# Altium footprint library JEILI_DEV_BOARD.PcbLib: 38 footprints (part 2 of 3)
Each footprint in its own frame and in the unit in brackets; x right, y up, seen from the top. Pads: shape width x height; smd on the part's side, far side on the other; paste and mask are expansions set on the pad; w line width, h text height; cw(c..) or ccw(c..) is an arc to the next point about the centre after c.
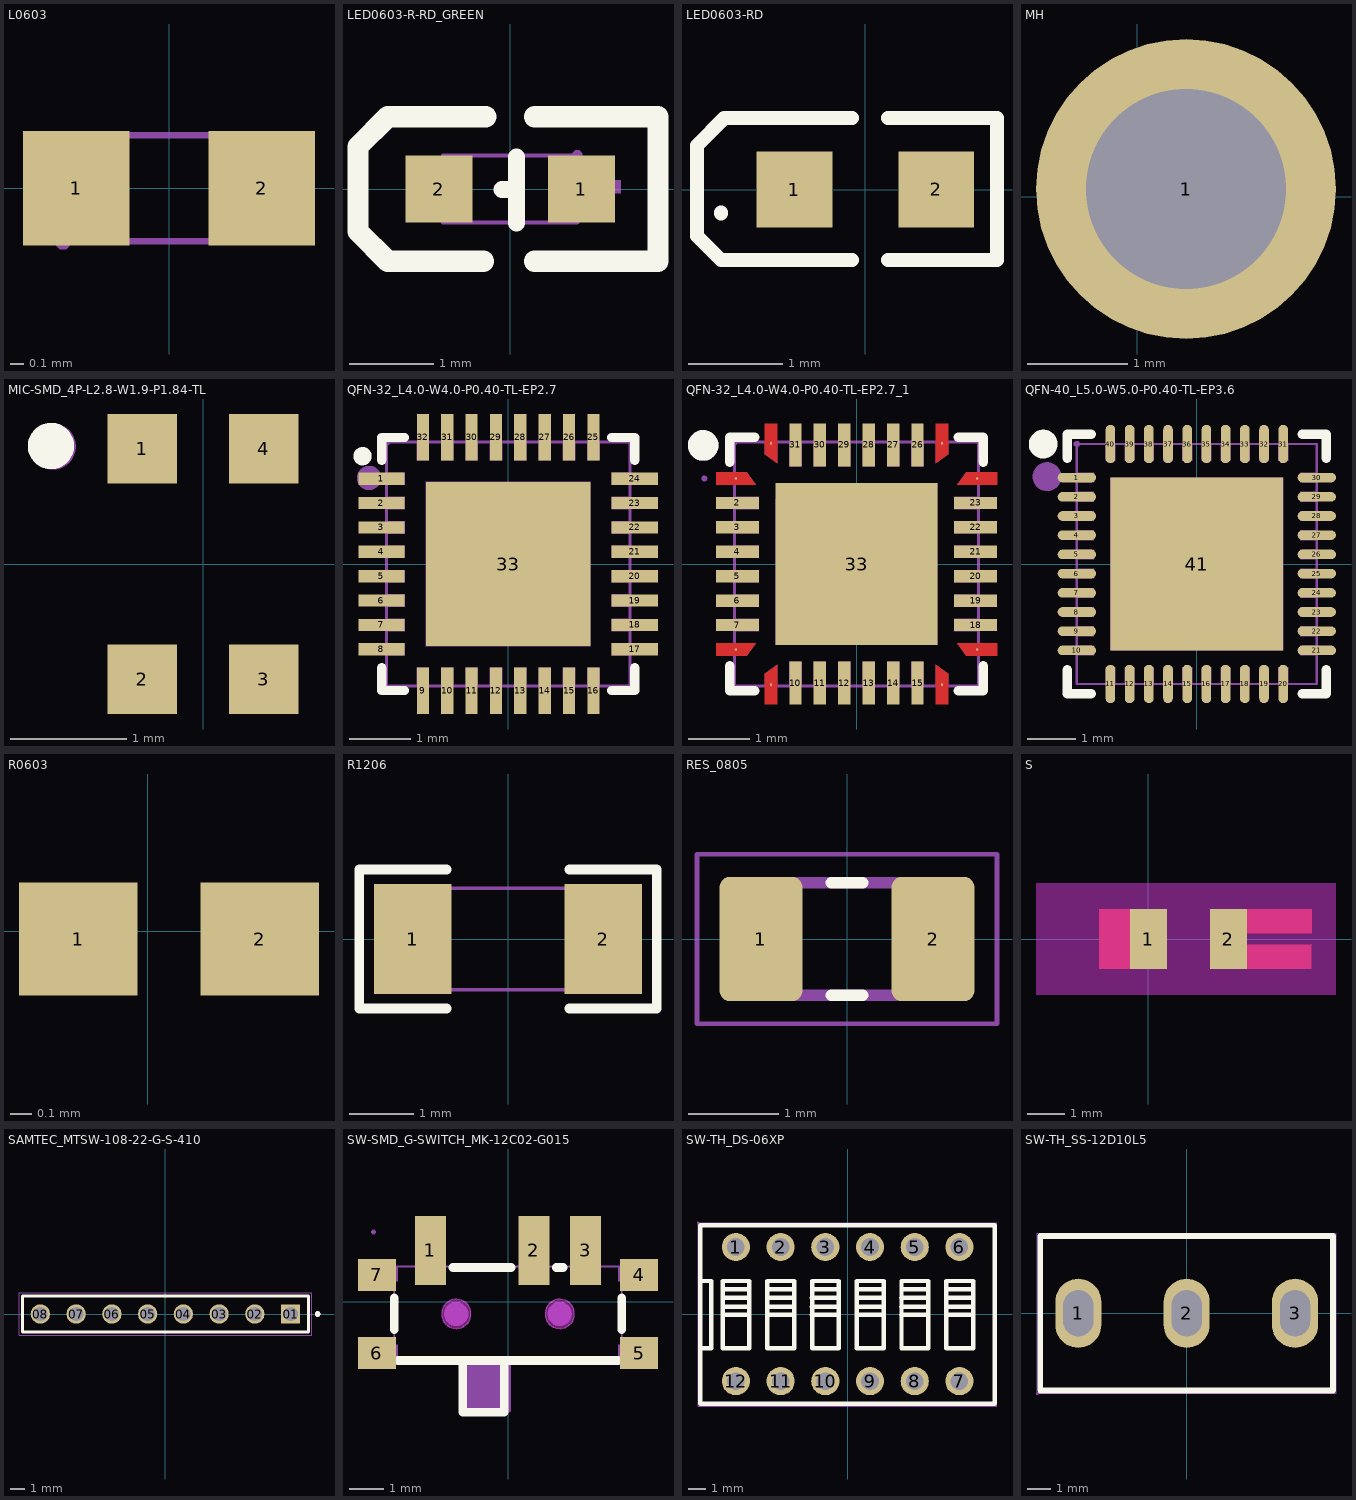
[diagram p1: the footprints below, top view; thin cyan lines are the x and y axes]

## L0603 [mm]
pads (2):
  rect 0.8x0.864 smd paste-100 mask+0.051: 1(-0.7,0) 2(0.7,0)
Top Paste:
  region: -0.252,0.143 -0.252,-0.134 -0.526,-0.427 -1.029,-0.427 -1.093,-0.363 -1.093,0.373 -1.029,0.437 -0.526,0.437
  region: 0.264,0.154 0.264,-0.122 0.538,-0.416 1.042,-0.416 1.106,-0.352 1.106,0.384 1.042,0.448 0.538,0.448
Mechanical 15:
  region: -0.74,-0.4 -0.74,-0.425 -0.775,-0.46 -0.825,-0.46 -0.86,-0.425 -0.86,-0.4 -0.86,-0.375 -0.825,-0.34 -0.775,-0.34 -0.74,-0.375
  region: 0.8,-0.4 0.5,-0.4 0.5,0.4 0.8,0.4
  region: -0.5,-0.4 -0.8,-0.4 -0.8,0.4 -0.5,0.4
  lines w0.051: -0.8,-0.4 0.8,-0.4 0.8,0.4 -0.8,0.4 -0.8,-0.4

## LED0603-R-RD_GREEN [mm]
pads (2):
  rect 0.8x0.8 smd: 1(0.851,0) 2(-0.851,0)
Top Overlay:
  lines w0.203: -0.099,-0.008 0.076,-0.008 ; 0.076,-0.406 0.076,0.381
  lines w0.254: -0.318,-0.864 -1.46,-0.864 -1.816,-0.508 -1.816,0.508 -1.46,0.864 -0.292,0.864 ; 0.292,-0.864 1.765,-0.864 1.765,0.864 0.292,0.864
Mechanical 6:
  region: -1.193,0.05 -0.533,0.05 -0.533,-0.103 -1.193,-0.103
  region: 0.936,-0.275 0.936,0.385 1.088,0.385 1.088,-0.275
  region: 0.66,0.102 1.321,0.102 1.321,-0.051 0.66,-0.051
Mechanical 15:
  region: -0.8,-0.4 -0.8,0.4 -0.5,0.4 -0.5,-0.4
  region: 0.8,0.4 0.8,-0.4 0.5,-0.4 0.5,0.4
  region: 0.86,0.4 0.86,0.375 0.825,0.34 0.775,0.34 0.74,0.375 0.74,0.4 0.74,0.425 0.775,0.46 0.825,0.46 0.86,0.425
  lines w0.051: -0.8,-0.4 -0.8,0.4 0.8,0.4 0.8,-0.4 -0.8,-0.4

## LED0603-RD [mm]
pads (2):
  rect 0.8x0.8 smd: 1(-0.749,0) 2(0.749,0)
Top Overlay:
  lines w0.15: -1.524,-0.254 -1.524,-0.244 ; -0.14,-0.746 -1.523,-0.746 -1.778,-0.491 -1.778,0.466 -1.49,0.754 -0.14,0.754 ; 0.24,-0.744 1.39,-0.744 ; 0.24,0.757 1.39,0.757 1.39,-0.723
Mechanical 6:
  region: -1.07,0.062 -0.53,0.062 -0.53,-0.068 -1.07,-0.068
  region: 0.735,-0.267 0.735,0.273 0.865,0.273 0.865,-0.267
  region: 0.529,0.068 1.069,0.068 1.069,-0.062 0.529,-0.062

## MH [mm]
pads (1):
  round 3 hole 2: 1(0.486,0.08)

## MIC-SMD_4P-L2.8-W1.9-P1.84-TL [mm]
pads (4):
  rect 0.6x0.6 smd: 1(-0.525,0.995) 2(-0.525,-0.995) 3(0.525,-0.995) 4(0.525,0.995)
Top Overlay:
  circle w0.2: c-1.313,1.019 r0.1
Mechanical 6:
  circle w0.2: c-1.298,1.015 r0.1
3D body: height 1, standoff 0, extent -0.934,-1.408 0.924,1.406

## QFN-32_L4.0-W4.0-P0.40-TL-EP2.7 [mm]
pads (33):
  rect 0.76x0.2 smd paste-100 mask+0.051: 1(-2.08,1.4) 2(-2.08,1) 3(-2.08,0.6) 4(-2.08,0.2) 5(-2.08,-0.2) 6(-2.08,-0.6) 7(-2.08,-1) 8(-2.08,-1.4) 17(2.08,-1.4) 18(2.08,-1) 19(2.08,-0.6) 20(2.08,-0.2) 21(2.08,0.2) 22(2.08,0.6) 23(2.08,1) 24(2.08,1.4)
  rect 0.2x0.76 smd paste-100 mask+0.051: 9(-1.4,-2.08) 10(-1,-2.08) 11(-0.6,-2.08) 12(-0.2,-2.08) 13(0.2,-2.08) 14(0.6,-2.08) 15(1,-2.08) 16(1.4,-2.08) 25(1.4,2.08) 26(1,2.08) 27(0.6,2.08) 28(0.2,2.08) 29(-0.2,2.08) 30(-0.6,2.08) 31(-1,2.08) 32(-1.4,2.08)
  rect 2.7x2.7 smd paste-100 mask+0.051: 33(0,0)
Top Overlay:
  circle w0.15: c-2.39,1.77 r0.075
  lines w0.152: -2.076,-1.703 -2.076,-2.076 -1.703,-2.076 ; -2.076,1.703 -2.076,2.076 -1.703,2.076 ; 1.703,-2.076 2.076,-2.076 2.076,-1.703 ; 1.703,2.076 2.076,2.076 2.076,1.703
Top Paste:
  drawing of 33 lines, arcs and shapes, not listed
Mechanical 6:
  circle w0.2: c-2.282,1.412 r0.1
Mechanical 15:
  drawing of 38 lines, arcs and shapes, not listed
3D body "SI5338A-A-GM--3DModel-STEP-56544.STEP": height 0.9, standoff 0, extent -2.038,-2.019 1.962,1.981

## QFN-32_L4.0-W4.0-P0.40-TL-EP2.7_1 [mm]
pads (33):
  round 0.04 smd mask+0.025: 1(-1.975,1.4) 8(-1.975,-1.4) 9(-1.4,-1.975) 16(1.4,-1.975) 17(1.975,-1.4) 24(1.975,1.4) 25(1.4,1.975) 32(-1.4,1.975)
  rect 0.7x0.2 smd mask+0.025: 2(-1.95,1) 3(-1.95,0.6) 4(-1.95,0.2) 5(-1.95,-0.2) 6(-1.95,-0.6) 7(-1.95,-1) 18(1.95,-1) 19(1.95,-0.6) 20(1.95,-0.2) 21(1.95,0.2) 22(1.95,0.6) 23(1.95,1)
  rect 0.2x0.7 smd mask+0.025: 10(-1,-1.95) 11(-0.6,-1.95) 12(-0.2,-1.95) 13(0.2,-1.95) 14(0.6,-1.95) 15(1,-1.95) 26(1,1.95) 27(0.6,1.95) 28(0.2,1.95) 29(-0.2,1.95) 30(-0.6,1.95) 31(-1,1.95)
  rect 2.65x2.65 smd mask+0.025: 33(0,0)
Top Layer:
  region: 2.3,1.3 1.65,1.3 1.8,1.5 2.3,1.5
  region: -1.3,-2.3 -1.5,-2.3 -1.5,-1.8 -1.3,-1.65
  region: -2.3,-1.3 -1.65,-1.3 -1.8,-1.5 -2.3,-1.5
  region: -2.3,1.3 -2.3,1.5 -1.8,1.5 -1.65,1.3
  region: -1.3,2.3 -1.3,1.65 -1.5,1.8 -1.5,2.3
  region: 1.3,-2.3 1.3,-1.65 1.5,-1.8 1.5,-2.3
  region: 2.3,-1.3 2.3,-1.5 1.8,-1.5 1.65,-1.3
  region: 1.3,2.3 1.5,2.3 1.5,1.8 1.3,1.65
Top Overlay:
  circle w0.3: c-2.511,1.941 r0.1
  lines w0.152: -2.076,-1.664 -2.076,-2.076 -1.665,-2.076 ; -2.076,1.664 -2.076,2.076 -1.665,2.076 ; 1.664,-2.076 2.076,-2.076 2.076,-1.664 ; 1.664,2.076 2.076,2.076 2.076,1.664
Mechanical 6:
  circle w0.05: c-2.491,1.4 r0.025
  circle w0.3: c-2.511,1.941 r0.1
Mechanical 15:
  drawing of 38 lines, arcs and shapes, not listed
3D body "SI5338A-A-GM--3DModel-STEP-56544.STEP": height 0.9, standoff 0, extent -2.002,-1.987 1.998,2.013

## QFN-40_L5.0-W5.0-P0.40-TL-EP3.6 [mm]
pads (41):
  oval 0.8x0.2 smd paste-100 mask+0.05: 1(-2.499,1.8) 2(-2.499,1.4) 3(-2.499,1) 4(-2.499,0.6) 5(-2.499,0.2) 6(-2.499,-0.2) 7(-2.499,-0.6) 8(-2.499,-1) 9(-2.499,-1.4) 10(-2.499,-1.8) 21(2.499,-1.8) 22(2.499,-1.4) 23(2.499,-1) 24(2.499,-0.6) 25(2.499,-0.2) 26(2.499,0.2) 27(2.499,0.6) 28(2.499,1) 29(2.499,1.4) 30(2.499,1.8)
  oval 0.2x0.8 smd paste-100 mask+0.05: 11(-1.8,-2.499) 12(-1.4,-2.499) 13(-1,-2.499) 14(-0.6,-2.499) 15(-0.2,-2.499) 16(0.2,-2.499) 17(0.6,-2.499) 18(1,-2.499) 19(1.4,-2.499) 20(1.8,-2.499) 31(1.8,2.499) 32(1.4,2.499) 33(1,2.499) 34(0.6,2.499) 35(0.2,2.499) 36(-0.2,2.499) 37(-0.6,2.499) 38(-1,2.499) 39(-1.4,2.499) 40(-1.8,2.499)
  rect 3.6x3.6 smd paste-100 mask+0.05: 41(0,0)
Top Overlay:
  lines w0.2: -2.7,-2.2 -2.7,-2.7 -2.2,-2.7 ; -2.7,2.2 -2.7,2.7 -2.2,2.7 ; 2.2,-2.7 2.7,-2.7 2.7,-2.2 ; 2.2,2.7 2.7,2.7 2.7,2.2
  lines w0.3: -3.051,2.497 cw(c-3.201,2.498) -3.351,2.498 cw(c-3.201,2.498) -3.051,2.499
Top Paste:
  drawing of 41 lines, arcs and shapes, not listed
Mechanical 6:
  circle w0.3: c-3.12,1.82 r0.15
Mechanical 15:
  drawing of 46 lines, arcs and shapes, not listed
3D body "SI5338A-A-GM--3DModel-STEP-56544.STEP": height 0.9, standoff 0, extent -1.991,-2.061 2.009,1.939

## R0603 [mm]
pads (2):
  rect 0.566x0.54 smd paste-100 mask+0.051: 1(-0.332,-0.038) 2(0.533,-0.038)
Top Paste:
  region: -0.035,-0.268 -0.035,0.192 -0.075,0.232 -0.575,0.232 -0.615,0.192 -0.615,-0.268 -0.575,-0.308 -0.075,-0.308
  region: 0.235,-0.268 0.235,0.192 0.275,0.232 0.776,0.232 0.816,0.192 0.816,-0.268 0.776,-0.308 0.275,-0.308
3D body "ERJ-U02J4R7X.STEP": height 0.35, standoff 0, extent -0.413,-0.286 0.587,0.214

## R1206 [mm]
pads (2):
  rect 1.208x1.701 smd paste-100 mask+0.051: 1(-1.479,0) 2(1.479,0)
Top Overlay:
  lines w0.152: -0.951,-1.079 -2.311,-1.079 -2.311,1.079 -0.951,1.079 ; 0.951,-1.079 2.311,-1.079 2.311,1.079 0.951,1.079
Top Paste:
  region: -0.875,-0.75 -0.875,-0.389 -0.975,-0.289 -1.186,-0.289 -1.286,-0.189 -1.286,0.189 -1.186,0.289 -0.975,0.289 -0.875,0.389 -0.875,0.75 -0.975,0.85 -1.983,0.85 -2.083,0.75 -2.083,-0.75 -1.983,-0.85 -0.975,-0.85
  region: 0.875,-0.75 0.875,-0.389 0.975,-0.289 1.186,-0.289 1.286,-0.189 1.286,0.189 1.186,0.289 0.975,0.289 0.875,0.389 0.875,0.75 0.975,0.85 1.983,0.85 2.083,0.75 2.083,-0.75 1.983,-0.85 0.975,-0.85
Mechanical 15:
  region: 1.55,-0.788 1.55,0.788 1.1,0.788 1.1,-0.788
  region: -1.55,-0.788 -1.55,0.788 -1.1,0.788 -1.1,-0.788
  region: -1.49,-0.787 -1.49,-0.812 -1.525,-0.847 -1.575,-0.847 -1.61,-0.812 -1.61,-0.787 -1.61,-0.763 -1.575,-0.727 -1.525,-0.727 -1.49,-0.763
  lines w0.051: -1.55,-0.788 1.55,-0.788 1.55,0.788 -1.55,0.788 -1.55,-0.788
3D body "ERJ-U08F56R0V.STEP": height 0.6, standoff 0, extent -1.633,-0.852 1.567,0.748

## RES_0805 [mm]
height 0.6
pads (2):
  rrect25% 0.92x1.38 smd: 1(-0.955,0) 2(0.955,0)
Top Overlay:
  lines w0.127: -0.175,-0.625 0.175,-0.625 ; -0.175,0.625 0.175,0.625
Mechanical 13:
  lines w0.127: -1,-0.625 -1,0.625 1,0.625 1,-0.625 -1,-0.625
Mechanical 15:
  lines w0.05: -1.665,-0.94 1.665,-0.94 1.665,0.94 -1.665,0.94 -1.665,-0.94
3D body "step_temp.STEP": height 0.3, standoff -0.3, extent -1,-0.625 1,0.625

## S [mm]
pads (2):
  rect 0.984x1.6 smd paste-100 mask+0.051: 1(0,0) 2(2.13,0)
Top Layer:
  rectangle: -1.324,-0.8 -0.492,0.8
  rectangle: 2.621,-0.8 4.353,-0.15
  rectangle: 2.622,0.15 4.354,0.8
Keep-Out Layer:
  rectangle: -3,-1.5 5,1.5

## SAMTEC_MTSW-108-22-G-S-410 [mm]
pads (8):
  rect 1.37x1.37 / inner round 1.37 / far side rect 1.37x1.37 hole 1.02: 01(8.89,0)
  round 1.37 hole 1.02: 02(6.35,0) 03(3.81,0) 04(1.27,0) 05(-1.27,0) 06(-3.81,0) 07(-6.35,0) 08(-8.89,0)
Top Overlay:
  circle w0.2: c10.81,0 r0.1
  lines w0.2: -10.16,-1.27 -10.16,1.27 10.16,1.27 10.16,-1.27 -10.16,-1.27
Mechanical 13:
  circle w0.2: c10.81,0 r0.1
  lines w0.1: -10.16,-1.27 -10.16,1.27 ; -10.16,-1.27 10.16,-1.27 ; -10.16,-1.27 -10.16,1.27 ; -10.16,1.27 10.16,1.27 ; -10.16,1.27 10.16,1.27 ; 10.16,-1.27 10.16,1.27 ; 10.16,-1.27 10.16,1.27
Mechanical 15:
  lines w0.05: -10.41,-1.52 -10.41,1.52 10.41,1.52 10.41,-1.52 -10.41,-1.52
3D body "MTSW-108-22-G-S-410.stp": height 12.95, standoff -3.05, extent -10.287,-1.143 10.033,1.397

## SW-SMD_G-SWITCH_MK-12C02-G015 [mm]
pads (7):
  rect 0.9x2 smd: 1(-2.25,1.491) 2(0.75,1.491) 3(2.25,1.491)
  rect 1.1x0.93 smd: 4(3.8,0.779) 5(3.8,-1.491) 6(-3.8,-1.491) 7(-3.8,0.779)
Top Overlay:
  lines w0.254: -3.3,-0.818 -3.3,0.106 ; -3.2,-1.706 3.2,-1.706 ; -1.592,0.994 0.092,0.994 ; -1.316,-1.706 -1.316,-2.238 -1.316,-2.673 -1.316,-3.206 -0.112,-3.206 -0.112,-2.652 -0.112,-2.26 -0.112,-1.706 ; 1.408,0.994 1.592,0.994 ; 3.3,-0.818 3.3,0.106
Keep-Out Layer:
  board cut-out: 1.925,-0.356 1.925,-0.44 1.86,-0.596 1.741,-0.716 1.585,-0.781 1.415,-0.781 1.259,-0.716 1.14,-0.596 1.075,-0.44 1.075,-0.356 1.075,-0.271 1.14,-0.115 1.259,0.005 1.415,0.069 1.585,0.069 1.741,0.005 1.86,-0.115 1.925,-0.271
  board cut-out: -1.075,-0.356 -1.075,-0.441 -1.14,-0.597 -1.259,-0.716 -1.415,-0.781 -1.585,-0.781 -1.741,-0.716 -1.86,-0.597 -1.925,-0.441 -1.925,-0.356 -1.925,-0.271 -1.86,-0.115 -1.741,0.004 -1.585,0.069 -1.415,0.069 -1.259,0.004 -1.14,-0.115 -1.075,-0.271
Keep-Out Layer:
  circle w0.025: c1.5,-0.356 r0.425
  circle w0.025: c-1.5,-0.356 r0.425
  region: 1.925,-0.356 1.925,-0.44 1.86,-0.596 1.741,-0.716 1.585,-0.781 1.415,-0.781 1.259,-0.716 1.14,-0.596 1.075,-0.44 1.075,-0.356 1.075,-0.271 1.14,-0.115 1.259,0.005 1.415,0.069 1.585,0.069 1.741,0.005 1.86,-0.115 1.925,-0.271
  region: -1.075,-0.356 -1.075,-0.441 -1.14,-0.597 -1.259,-0.716 -1.415,-0.781 -1.585,-0.781 -1.741,-0.716 -1.86,-0.597 -1.925,-0.441 -1.925,-0.356 -1.925,-0.271 -1.86,-0.115 -1.741,0.004 -1.585,0.069 -1.415,0.069 -1.259,0.004 -1.14,-0.115 -1.075,-0.271
Mechanical 1:
  circle w0.025: c1.5,-0.356 r0.425
  circle w0.025: c-1.5,-0.356 r0.425
Mechanical 6:
  circle w0.35: c-1.5,-0.356 r0.175
  circle w0.35: c1.5,-0.356 r0.175
  region: -1.264,-1.716 0.036,-1.706 0.036,-3.206 -1.284,-3.206 -1.284,-3.026
Mechanical 15:
  region: -3.84,2.02 -3.84,1.995 -3.875,1.96 -3.925,1.96 -3.96,1.995 -3.96,2.02 -3.96,2.045 -3.925,2.08 -3.875,2.08 -3.84,2.045
  region: 2.05,2.02 2.45,2.02 2.45,0.97 2.05,0.97
  region: 0.55,2.02 0.95,2.02 0.95,0.97 0.55,0.97
  region: -2.45,2.02 -2.05,2.02 -2.05,0.97 -2.45,0.97
  region: -3.2,0.59 -3.9,0.59 -3.9,1.02 -3.2,1.02
  region: 3.2,1.02 3.9,1.02 3.9,0.59 3.2,0.59
  region: 3.2,-1.25 3.9,-1.25 3.9,-1.68 3.2,-1.68
  region: -3.9,-1.25 -3.2,-1.25 -3.2,-1.68 -3.9,-1.68
  lines w0.051: -3.3,-1.68 -1.316,-1.68 -1.316,-3.176 0.064,-3.176 0.064,-1.68 3.3,-1.68 3.3,1.02 -3.3,1.02 -3.3,-0.9 -3.3,-1.68
3D body "Download_STP_450404015514+%28rev1%29.stp": height 1.4, standoff -0.5, extent -3.83,-3.294 3.87,1.836

## SW-TH_DS-06XP [mm]
pads (12):
  round 1.6 hole 1: 1(-6.35,3.81) 2(-3.81,3.81) 3(-1.27,3.81) 4(1.27,3.81) 5(3.81,3.81) 6(6.35,3.81) 7(6.35,-3.81) 8(3.81,-3.81) 9(1.27,-3.81) 10(-1.27,-3.81) 11(-3.81,-3.81) 12(-6.35,-3.81)
Top Overlay:
  lines w0.254: -8.372,1.879 -7.737,1.879 -7.737,-1.931 -8.372,-1.931 ; -7.111,0.415 -5.711,0.415 ; -7.111,0.915 -5.711,0.915 ; -7.07,-0.026 -5.67,-0.026 ; -7.052,1.415 -5.652,1.415 ; -4.571,0.415 -3.171,0.415 ; -4.571,0.915 -3.171,0.915 ; -4.57,-0.026 -3.17,-0.026 ; -4.512,1.415 -3.112,1.415 ; -2.031,0.415 -0.631,0.415 ; -2.031,0.915 -0.631,0.915 ; -2.03,-0.026 -0.63,-0.026 ; -1.972,1.415 -0.572,1.415 ; 0.509,0.415 1.909,0.415 ; 0.509,0.915 1.909,0.915 ; 0.51,-0.026 1.91,-0.026 ; 0.568,1.415 1.968,1.415 ; 3.049,0.415 4.449,0.415 ; 3.049,0.915 4.449,0.915 ; 3.05,-0.026 4.45,-0.026 ; 3.108,1.415 4.508,1.415 ; 5.589,0.415 6.989,0.415 ; 5.589,0.915 6.989,0.915 ; 5.59,-0.026 6.99,-0.026 ; 5.648,1.415 7.048,1.415 ; -8.372,-1.931 -8.372,-5.106 8.357,-5.106 8.357,5.054 -8.372,5.054 -8.372,-1.931 ; -7.102,-1.931 -5.578,-1.931 -5.578,1.879 -7.102,1.879 -7.102,-1.931 ; -4.562,-1.931 -3.038,-1.931 -3.038,1.879 -4.562,1.879 -4.562,-1.931 ; -2.022,-1.931 -0.498,-1.931 -0.498,1.879 -2.022,1.879 -2.022,-1.931 ; 0.518,-1.931 2.042,-1.931 2.042,1.879 0.518,1.879 0.518,-1.931 ; 3.058,-1.931 4.582,-1.931 4.582,1.879 3.058,1.879 3.058,-1.931 ; 5.598,-1.931 7.122,-1.931 7.122,1.879 5.598,1.879 5.598,-1.931
Mechanical 6:
  text "6" at 6.172,-2.537 h0.51
  text "5" at 3.632,-2.537 h0.51
  text "4" at 1.092,-2.537 h0.51
  text "3" at -1.448,-2.537 h0.51
  text "2" at -3.988,-2.537 h0.51
  text "1" at -6.528,-2.639 h0.51
Mechanical 15:
  drawing of 17 lines, arcs and shapes, not listed

## SW-TH_SS-12D10L5 [mm]
pads (3):
  oval 2x3 hole 1.3 slot 2 at 90 deg: 1(-4.7,0) 2(0,0) 3(4.7,0)
Top Overlay:
  lines w0.254: -6.35,-3.35 -6.35,3.35 6.35,3.35 6.35,-3.35 -6.35,-3.35
Mechanical 15:
  region: -5.1,0.65 -4.3,0.65 -4.3,-0.65 -5.1,-0.65
  region: -0.4,0.65 0.4,0.65 0.4,-0.65 -0.4,-0.65
  region: 4.3,0.65 5.1,0.65 5.1,-0.65 4.3,-0.65
  region: -6.417,-3.477 -6.417,-3.502 -6.452,-3.537 -6.502,-3.537 -6.537,-3.502 -6.537,-3.477 -6.537,-3.452 -6.502,-3.417 -6.452,-3.417 -6.417,-3.452
  lines w0.051: -6.477,-3.477 -6.477,3.477 6.477,3.477 6.477,-3.477 -6.477,-3.477